# Altium footprint library F_2920_7351.PcbLib: 1 footprints
Each footprint in its own frame and in the unit in brackets; x right, y up, seen from the top. Pads: shape width x height; smd on the part's side, far side on the other; paste and mask are expansions set on the pad; w line width, h text height; cw(c..) or ccw(c..) is an arc to the next point about the centre after c.
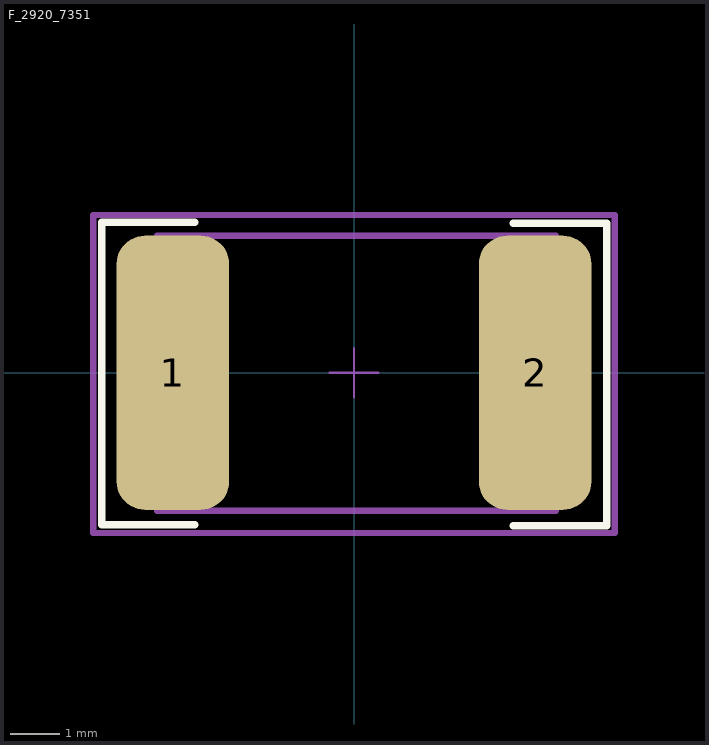
[diagram p0: the footprint, top view; thin cyan lines are the x and y axes]

## F_2920_7351 [mm]
pads (2):
  rrect50% 2.3x5.6 smd: 1(-3.7,0) 2(3.7,0)
Top Overlay:
  lines w0.152: -3.257,-3.1 -5.15,-3.1 -5.15,3.075 -3.257,3.075 ; 3.257,-3.125 5.162,-3.125 5.162,3.05 3.257,3.05
Top Assembly:
  lines w0.127: -4.025,-2.82 -4.025,2.8 4.125,2.8 4.125,-2.82 -4.025,-2.82
Top Courtyard:
  lines w0.05: -0.5,0 0.5,0 ; 0,-0.502 0,0.498
  lines w0.127: -5.325,-3.275 5.325,-3.275 5.325,3.225 -5.325,3.225 -5.325,-3.275
3D body "User Library-Fuse2920.step": height 0.39, standoff -0.41, extent -3.94,-2.72 4.04,2.72